# Altium schematic symbol library symbols.SchLib: 21 symbols
Pins are listed as number, name and electrical type; pins without a type are passive.

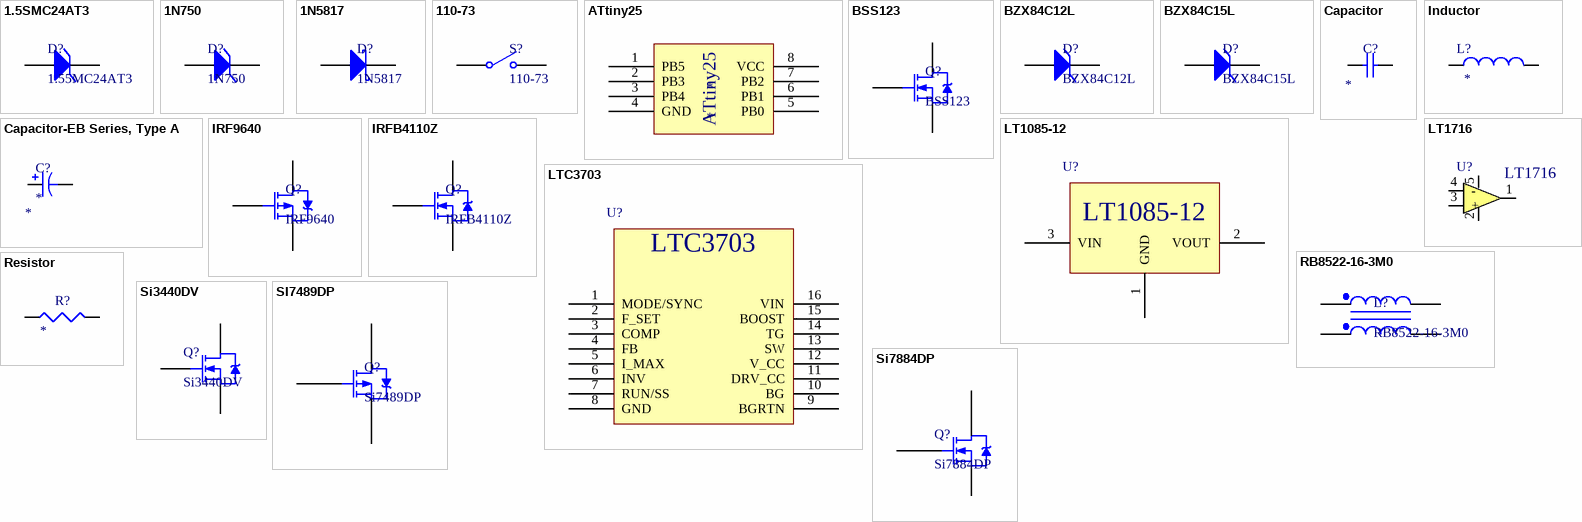
[diagram p0: symbols 1.5SMC24AT3 to Si7884DP]

## 1.5SMC24AT3
designator D?, comment 1.55MC24AT3
TVS
footprint SMC 403-03
pins: 1 A, 2 K

## 1N750
designator D?
footprint DO-35
pins: 1 K, 2 A

## 1N5817
designator D?
footprint DO-41
pins: 1 K, 2 A

## 110-73
designator S?
footprint 100-73 (SPST Switch)
pins: 1 COMMON, 2 NO

## ATtiny25
designator *
footprint PDIP-8
pins: 1 PB5 "PCINT5/RESET/ADC0/dW", 2 PB3 "PCINT3/XTAL1/~OC1B/ADC3", 3 PB4 "PCINT4/XTAL2/OC1B/ADC2", 4 GND, 5 PB0 "MOSI/DI/SDA/AIN0/OC0A/~OC1A/AREF/PCINT0", 6 PB1 "MISO/DO/AIN1/OC0B/PCINT1", 7 PB2 "SCK/USCK/SCL/ADC1/T0/INT0/PCINT2", 8 VCC

## BSS123
designator Q?
footprint 3-Lead SOT-23
pins: 1 G, 2 D, 3 S

## BZX84C12L
designator D?
footprint 3-Lead SOT-23
pins: 1 A, 3 K

## BZX84C15L
designator D?
footprint 3-Lead SOT-23
pins: 1 A, 3 K

## Capacitor
designator C?
Value: *
footprint CAP0805
footprint CAP1206
pins: 1, 2

## Capacitor-EB Series, Type A
designator C?
Electrolytic Capacitor; Value: *
footprint EB Series Type A - 18mm (Radial Capacitor EB Series Type A, 5mm Body Diameter)
footprint EB Series Type A - 5mm (Radial Capacitor EB Series Type A, 5mm Body Diameter)
footprint EB Series Type A - 16mm (Radial Capacitor EB Series Type A, 5mm Body Diameter)
footprint EB Series Type A - 12.5mm (Radial Capacitor EB Series Type A, 5mm Body Diameter)
footprint EB Series Type A - 10mm (Radial Capacitor EB Series Type A, 5mm Body Diameter)
footprint EB Series Type A - 6.3mm (Radial Capacitor EB Series Type A, 5mm Body Diameter)
footprint EB Series Type A - 8mm (Radial Capacitor EB Series Type A, 5mm Body Diameter)
pins: 1, 2

## Inductor
designator L?  (value not drawn)
VALUE: *
footprint RES1206
footprint RES0805
pins: 1, 2

## IRF9640
designator Q?
footprint D2PAK (TO-263); pin to pad 2>4
pins: 1 G, 2 D, 3 S

## IRFB4110Z
designator Q?
footprint TO-220
pins: 1 G, 2 D, 3 S

## LT1085-12
designator U?  (value not drawn)
footprint TO-3P
pins: 1 GND, 2 VOUT, 3 VIN

## LT1716
designator U?  (value not drawn)
footprint 5-Lead TSOT-23
pins: 1 VOUT, 2 V-, 3 +, 4 -, 5

## LTC3703
designator U?  (value not drawn)
footprint SSOP-16
pins: 1 MODE/SYNC, 2 F_SET, 3 COMP, 4 FB, 5 I_MAX, 6 INV, 7 RUN/SS, 8 GND, 9 BGRTN, 10 BG, 11 DRV_CC, 12 V_CC, 13 SW, 14 TG, 15 BOOST, 16 VIN

## RB8522-16-3M0
designator L?
footprint RB8522-16-3M0 (Size 4)
pins: 1, 2, 3, 4, 5, 6, 7, 8

## Resistor
designator R?
VALUE: *
footprint RES1206
footprint RES0805
pins: 1, 2

## Si3440DV
designator Q?
footprint TSOP-6 (JEDEC P/N: MO-193C)
pins: 1 G, 2 D, 3 S

## SI7489DP
designator Q?, comment Si7489DP
footprint PowerPAK SO-8
pins: 1 S, 2 S, 3 S, 4 G, 5 D

## Si7884DP
designator Q?
footprint PowerPAK SO-8
pins: 1 S, 2 S, 3 S, 4 G, 5 D